# Altium schematic symbol library 1987724.SchLib: 1 symbol
Pins are listed as number, name and electrical type; pins without a type are passive.

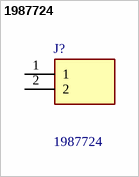
[diagram p0: symbol 1987724]

## 1987724
designator J?
Phoenix Contact PT 2.5/ 2-5.0-V PCB Terminal Block, 2 Way/Pole, Screw Terminals, 20  10 AWG Through Hole,; Geometry.Height: 9.15mm; Mouser Part Number: 651-1987724; Mouser Price/Stock: https://www.mouser.co.uk/ProductDetail/Phoenix-Contact/1987724?qs=gjk32EaArKIePzXcIKo3jg%3D%3D; Manufacturer_Name: Phoenix Contact; Manufacturer_Part_Number: 1987724; Datasheet Link: https://datasheet.datasheetarchive.com/originals/distributors/Datasheets-DGA18/1075322.pdf
footprint 1987724
pins: 1, 2